# Altium integrated library ARJM11C7-502-AB-EV.IntLib: 1 symbol
Pins are listed as number, name and electrical type; pins without a type are passive.

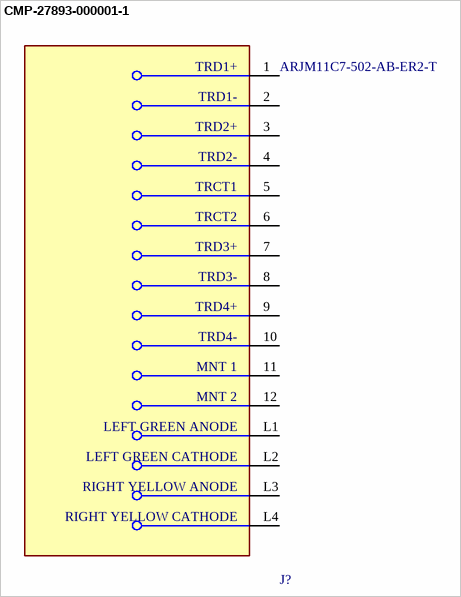
[diagram p0: symbol CMP-27893-000001-1]

## CMP-27893-000001-1
designator J?, comment ARJM11C7-502-AB-ER2-T
RJ45 JACK W/MAG 1X1 1000BASE-T; Manufacturer: Abracon; Conn Gender: Female; Is Female: yes; Shielding: true; Pitch: 1.27mm; Number Of Contacts: 10; Conn Orientation: Right Angle; RoHS: TRUE; Digikey Description: RJ45 JACK W/MAG 1X1 1000BASE-T; Temperature Range Low: -40°C; ComponentLink2Description: Datasheet; Category: Conn; Temperature Range High: +85°C; Package: 0; Device Class L1: Connectors; Manufacturer Part Number: ARJM11C7-502-AB-ER2-T; ComponentLink2URL: https://abracon.com/Magnetics/ARJM11.pdf; Automotive: No; Contact Material: Gold; Height: 15.8mm; Lead Free: Yes; Temperature: -40°C to +85°C; Device Class L2: Modular / Ethernet Connectors; Device Class L3: unset; Octopart: https://octopart.com/arjm11c7-502-ab-er2-t-abracon-86945316
footprint FP-ARJM11C7-502-AB-ER2-T-MFG
pins: 1 TRD1+, 2 TRD1-, 3 TRD2+, 4 TRD2-, 5 TRCT1, 6 TRCT2, 7 TRD3+, 8 TRD3-, 9 TRD4+, 10 TRD4-, 11 MNT 1, 12 MNT 2, L1 LEFT GREEN ANODE, L2 LEFT GREEN CATHODE, L3 RIGHT YELLOW ANODE, L4 RIGHT YELLOW CATHODE